# Altium footprint library SUB-SMA.PcbLib: 1 footprints
Each footprint in its own frame and in the unit in brackets; x right, y up, seen from the top. Pads: shape width x height; smd on the part's side, far side on the other; paste and mask are expansions set on the pad; w line width, h text height; cw(c..) or ccw(c..) is an arc to the next point about the centre after c.
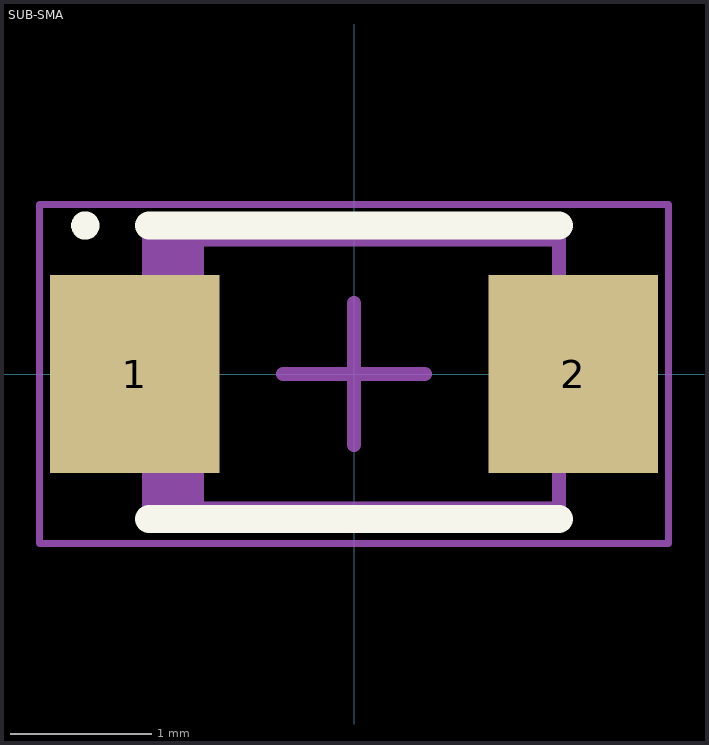
[diagram p0: the footprint, top view; thin cyan lines are the x and y axes]

## SUB-SMA [mm] "sub SMA"
height 1.43
pads (2):
  rect 1.2x1.4 smd: 1(-1.55,0) 2(1.55,0)
Top Overlay:
  circle w0.1: c-1.9,1.05 r0.05
  lines w0.2: -1.45,-1.025 1.45,-1.025 ; -1.45,1.05 1.45,1.05
Top Assembly:
  rectangle: -1.45,-0.95 -1.06,0.95
  lines w0.1: -1.45,-0.95 1.45,-0.95 1.45,0.95 -1.45,0.95 -1.45,-0.95
Top Courtyard:
  lines w0.05: -2.225,-1.2 2.225,-1.2 2.225,1.2 -2.225,1.2 -2.225,-1.2
  lines w0.1: -0.5,0 0.5,0 ; 0,-0.5 0,0.5
3D body "User Library-sub-sma.STEP": height 1.35, standoff 0, extent -1.85,-0.9 1.85,0.9